# Altium integrated library Analog Devices Data Converters Analog-to-Digital Converters.IntLib: 2400 symbols (part 201 of 338)
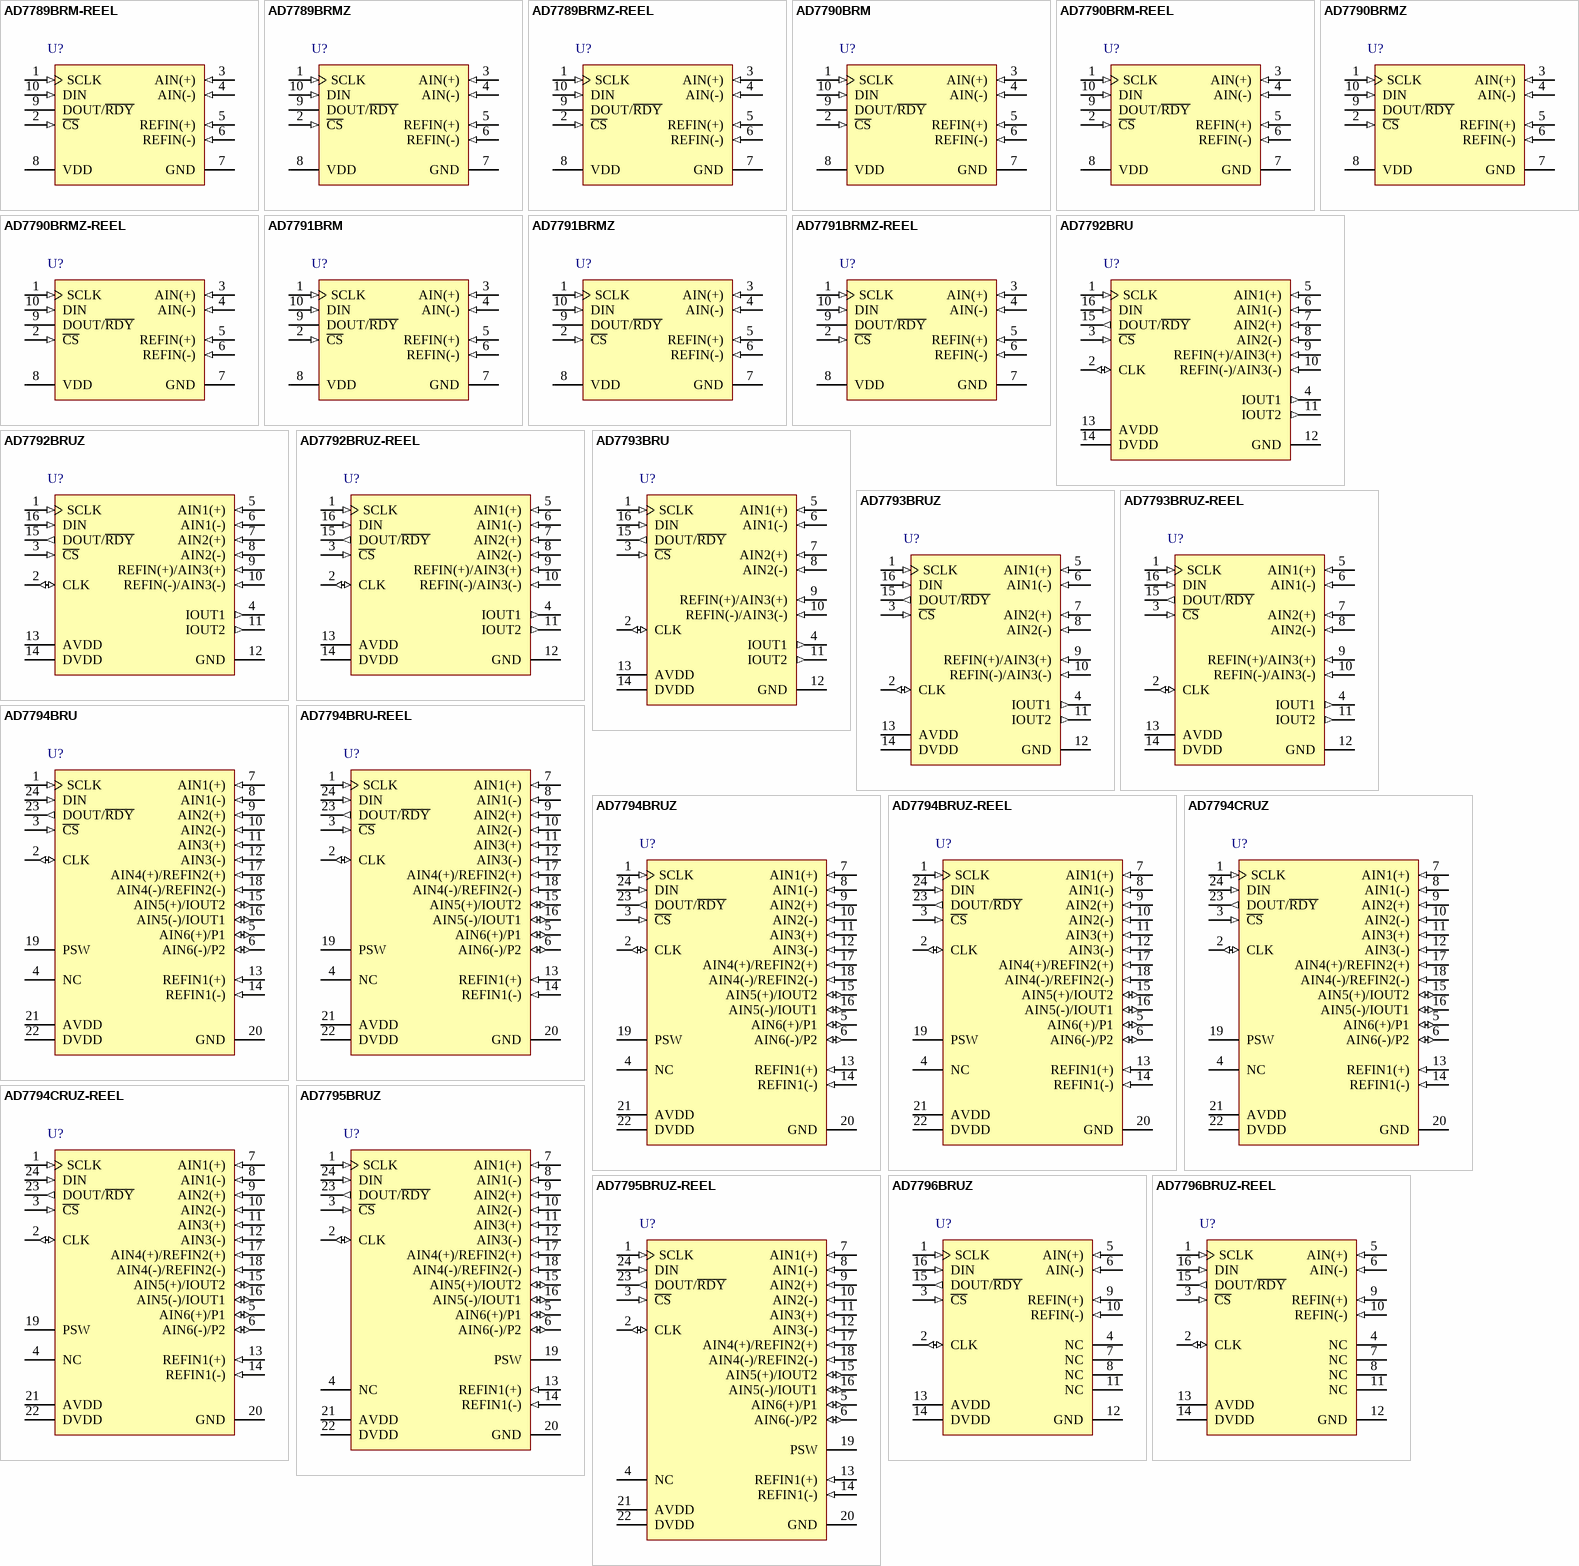
[diagram p266: symbols AD7789BRM-REEL to AD7796BRUZ-REEL]

## AD7793BRU
designator U?
3 Channel 24-Bit Low Noise Low Power Sigma-Delta Analog-to-Digital Converter with Serial, SPI Interface and On-Chip In-Amp and Reference, 4.17 / 470SPS, -40 to +105 degC, RU-16, Tube; Part Number: AD7793; Manufacturer: Analog Devices; Resolution (Bits): 24; Channels: 3; Throughput Rate (SPS): 470; Interface: Ser, SPI; DatasheetVersion: Rev.B; PackageVersion: Nov-2002; PackageReference: RU-16; PackageDescription: 16-Lead Thin Shrink Small Outline Package [TSSOP]; RoHS: N; Packing: Tube; Mounting Technology: Surface Mount; Code_JEDEC: MO-153-AB; ComponentLink1Description: Manufacturer URL; ComponentLink1URL: http://www.analog.com/en/index.html; ComponentLink2Description: Datasheet; ComponentLink2URL: http://www.analog.com/static/imported-files/data_sheets/AD7792_7793.pdf; ComponentLink3Description: Package Specification; ComponentLink3URL: http://www.analog.com/static/imported-files/packages/36244347913743854010197452789RU16.pdf; ComponentLink4Description: Product URL; ComponentLink4URL: http://www.analog.com/en/analog-to-digital-converters/ad-converters/ad7793/products/product.html
footprint RU-16_N (TSOP, 16-Leads, Body 5x4.4mm, Pitch 0.65mm, IPC Medium Density)
footprint RU-16_L (TSOP, 16-Leads, Body 5x4.4mm, Pitch 0.65mm, IPC High Density)
footprint RU-16_M (TSOP, 16-Leads, Body 5x4.4mm, Pitch 0.65mm, IPC Low Density)
pins: 1 SCLK (in) "Serial Clock Input. This serial clock input is for data transfers to and from the ADC. The SCLK has a Schmitttriggered input, making the interface suitable for opto-isolated applications. The serial clock can be continuous (See Datasheet)", 2 CLK (io) "Clock In/Clock Out. The internal clock can be made available at this pin. Alternatively, the internal clock can be disabled, and the ADC can be driven by an external clock. This allows several ADCs to be driven from a common (See Datasheet)", 3 ~{CS} (in) "Chip Select Input. This is an active low logic input used to select the ADC. C\S\ can be used to select the ADC in systems with more than one device on the serial bus or as a frame synchronization signal in communicating (See Datasheet)", 4 IOUT1 (out) "Output of Internal Excitation Current Source. The internal excitation current source can be made available at this pin. The excitation current source is programmable so that the current can be 10 uA, 210 uA, or 1 mA. Either (See Datasheet)", 5 AIN1(+) (in) "Analog Input. AIN1(+) is the positive terminal of the differential analog input pair AIN1(+)/AIN1(-).", 6 AIN1(-) (in) "Analog Input. AIN1(-) is the negative terminal of the differential analog input pair AIN1(+)/AIN1(-).", 7 AIN2(+) (in) "Analog Input. AIN2(+) is the positive terminal of the differential analog input pair AIN2(+)/AIN2(-).", 8 AIN2(-) (in) "Analog Input. AIN2(-) is the negative terminal of the differential analog input pair AIN2(+)/AIN2(-).", 9 REFIN(+)/AIN3(+) (in) "Positive Reference Input/Analog Input. An external reference can be applied between REFIN(+) and REFIN(-). REFIN(+) can lie anywhere between AVDD and GND + 0.1 V. The nominal reference voltage  REFIN(+) - REFIN(-) is 2.5 V, (See Datasheet)", 10 REFIN(-)/AIN3(-) (in) "Negative Reference Input/Analog Input. REFIN(-) is the negative reference input for REFIN. This reference input can lie anywhere between GND and AVDD - 0.1 V. This pin also functions as AIN3(-), which is the negative (See Datasheet)", 11 IOUT2 (out) "Output of Internal Excitation Current Source. The internal excitation current source can be made available at this pin. The excitation current source is programmable so that the current can be 10 uA, 210 uA, or 1 mA. Either (See Datasheet)", 12 GND "Ground Reference Point.", 13 AVDD (power) "Supply Voltage, 2.7 V to 5.25 V.", 14 DVDD (power) "Digital Interface Supply Voltage. The logic levels for the serial interface pins are related to this supply, which is between 2.7 V and 5.25 V. The DVDD voltage is independent of the voltage on AVDD; therefore, AVDD can (See Datasheet)", 15 DOUT/~{RDY} (out) "Serial Data Output/Data Ready Output. DOUT/R\D\Y\ serves a dual purpose. It functions as a serial data output pin to access the output shift register of the ADC. The output shift register can contain data from any of the (See Datasheet)", 16 DIN (in) "Serial Data Input. This serial data input is to the input shift register on the ADC. Data in this shift register is transferred to the control registers within the ADC; the register selection bits of the communications (See Datasheet)"

## AD7793BRUZ
designator U?
3 Channel 24-Bit Low Noise Low Power Sigma-Delta Analog-to-Digital Converter with Serial, SPI Interface and On-Chip In-Amp and Reference, 4.17 / 470SPS, -40 to +105 degC, RU-16, Pb-Free, Tube; Part Number: AD7793; Manufacturer: Analog Devices; Resolution (Bits): 24; Channels: 3; Throughput Rate (SPS): 470; Interface: Ser, SPI; DatasheetVersion: Rev.B; PackageVersion: Nov-2002; PackageReference: RU-16; PackageDescription: 16-Lead Thin Shrink Small Outline Package [TSSOP]; RoHS: Y; Packing: Tube; Mounting Technology: Surface Mount; Code_JEDEC: MO-153-AB; ComponentLink1Description: Manufacturer URL; ComponentLink1URL: http://www.analog.com/en/index.html; ComponentLink2Description: Datasheet; ComponentLink2URL: http://www.analog.com/static/imported-files/data_sheets/AD7792_7793.pdf; ComponentLink3Description: Package Specification; ComponentLink3URL: http://www.analog.com/static/imported-files/packages/36244347913743854010197452789RU16.pdf; ComponentLink4Description: Product URL; ComponentLink4URL: http://www.analog.com/en/analog-to-digital-converters/ad-converters/ad7793/products/product.html
footprint RU-16_N (TSOP, 16-Leads, Body 5x4.4mm, Pitch 0.65mm, IPC Medium Density)
footprint RU-16_L (TSOP, 16-Leads, Body 5x4.4mm, Pitch 0.65mm, IPC High Density)
footprint RU-16_M (TSOP, 16-Leads, Body 5x4.4mm, Pitch 0.65mm, IPC Low Density)
pins: 1 SCLK (in) "Serial Clock Input. This serial clock input is for data transfers to and from the ADC. The SCLK has a Schmitttriggered input, making the interface suitable for opto-isolated applications. The serial clock can be continuous (See Datasheet)", 2 CLK (io) "Clock In/Clock Out. The internal clock can be made available at this pin. Alternatively, the internal clock can be disabled, and the ADC can be driven by an external clock. This allows several ADCs to be driven from a common (See Datasheet)", 3 ~{CS} (in) "Chip Select Input. This is an active low logic input used to select the ADC. C\S\ can be used to select the ADC in systems with more than one device on the serial bus or as a frame synchronization signal in communicating (See Datasheet)", 4 IOUT1 (out) "Output of Internal Excitation Current Source. The internal excitation current source can be made available at this pin. The excitation current source is programmable so that the current can be 10 uA, 210 uA, or 1 mA. Either (See Datasheet)", 5 AIN1(+) (in) "Analog Input. AIN1(+) is the positive terminal of the differential analog input pair AIN1(+)/AIN1(-).", 6 AIN1(-) (in) "Analog Input. AIN1(-) is the negative terminal of the differential analog input pair AIN1(+)/AIN1(-).", 7 AIN2(+) (in) "Analog Input. AIN2(+) is the positive terminal of the differential analog input pair AIN2(+)/AIN2(-).", 8 AIN2(-) (in) "Analog Input. AIN2(-) is the negative terminal of the differential analog input pair AIN2(+)/AIN2(-).", 9 REFIN(+)/AIN3(+) (in) "Positive Reference Input/Analog Input. An external reference can be applied between REFIN(+) and REFIN(-). REFIN(+) can lie anywhere between AVDD and GND + 0.1 V. The nominal reference voltage  REFIN(+) - REFIN(-) is 2.5 V, (See Datasheet)", 10 REFIN(-)/AIN3(-) (in) "Negative Reference Input/Analog Input. REFIN(-) is the negative reference input for REFIN. This reference input can lie anywhere between GND and AVDD - 0.1 V. This pin also functions as AIN3(-), which is the negative (See Datasheet)", 11 IOUT2 (out) "Output of Internal Excitation Current Source. The internal excitation current source can be made available at this pin. The excitation current source is programmable so that the current can be 10 uA, 210 uA, or 1 mA. Either (See Datasheet)", 12 GND "Ground Reference Point.", 13 AVDD (power) "Supply Voltage, 2.7 V to 5.25 V.", 14 DVDD (power) "Digital Interface Supply Voltage. The logic levels for the serial interface pins are related to this supply, which is between 2.7 V and 5.25 V. The DVDD voltage is independent of the voltage on AVDD; therefore, AVDD can (See Datasheet)", 15 DOUT/~{RDY} (out) "Serial Data Output/Data Ready Output. DOUT/R\D\Y\ serves a dual purpose. It functions as a serial data output pin to access the output shift register of the ADC. The output shift register can contain data from any of the (See Datasheet)", 16 DIN (in) "Serial Data Input. This serial data input is to the input shift register on the ADC. Data in this shift register is transferred to the control registers within the ADC; the register selection bits of the communications (See Datasheet)"

## AD7793BRUZ-REEL
designator U?
3 Channel 24-Bit Low Noise Low Power Sigma-Delta Analog-to-Digital Converter with Serial, SPI Interface and On-Chip In-Amp and Reference, 4.17 / 470SPS, -40 to +105 degC, RU-16, Pb-Free, Reel; Part Number: AD7793; Manufacturer: Analog Devices; Resolution (Bits): 24; Channels: 3; Throughput Rate (SPS): 470; Interface: Ser, SPI; DatasheetVersion: Rev.B; PackageVersion: Nov-2002; PackageReference: RU-16; PackageDescription: 16-Lead Thin Shrink Small Outline Package [TSSOP]; RoHS: Y; Packing: Reel; Mounting Technology: Surface Mount; Code_JEDEC: MO-153-AB; ComponentLink1Description: Manufacturer URL; ComponentLink1URL: http://www.analog.com/en/index.html; ComponentLink2Description: Datasheet; ComponentLink2URL: http://www.analog.com/static/imported-files/data_sheets/AD7792_7793.pdf; ComponentLink3Description: Package Specification; ComponentLink3URL: http://www.analog.com/static/imported-files/packages/36244347913743854010197452789RU16.pdf; ComponentLink4Description: Product URL; ComponentLink4URL: http://www.analog.com/en/analog-to-digital-converters/ad-converters/ad7793/products/product.html
footprint RU-16_N (TSOP, 16-Leads, Body 5x4.4mm, Pitch 0.65mm, IPC Medium Density)
footprint RU-16_L (TSOP, 16-Leads, Body 5x4.4mm, Pitch 0.65mm, IPC High Density)
footprint RU-16_M (TSOP, 16-Leads, Body 5x4.4mm, Pitch 0.65mm, IPC Low Density)
pins: 1 SCLK (in) "Serial Clock Input. This serial clock input is for data transfers to and from the ADC. The SCLK has a Schmitttriggered input, making the interface suitable for opto-isolated applications. The serial clock can be continuous (See Datasheet)", 2 CLK (io) "Clock In/Clock Out. The internal clock can be made available at this pin. Alternatively, the internal clock can be disabled, and the ADC can be driven by an external clock. This allows several ADCs to be driven from a common (See Datasheet)", 3 ~{CS} (in) "Chip Select Input. This is an active low logic input used to select the ADC. C\S\ can be used to select the ADC in systems with more than one device on the serial bus or as a frame synchronization signal in communicating (See Datasheet)", 4 IOUT1 (out) "Output of Internal Excitation Current Source. The internal excitation current source can be made available at this pin. The excitation current source is programmable so that the current can be 10 uA, 210 uA, or 1 mA. Either (See Datasheet)", 5 AIN1(+) (in) "Analog Input. AIN1(+) is the positive terminal of the differential analog input pair AIN1(+)/AIN1(-).", 6 AIN1(-) (in) "Analog Input. AIN1(-) is the negative terminal of the differential analog input pair AIN1(+)/AIN1(-).", 7 AIN2(+) (in) "Analog Input. AIN2(+) is the positive terminal of the differential analog input pair AIN2(+)/AIN2(-).", 8 AIN2(-) (in) "Analog Input. AIN2(-) is the negative terminal of the differential analog input pair AIN2(+)/AIN2(-).", 9 REFIN(+)/AIN3(+) (in) "Positive Reference Input/Analog Input. An external reference can be applied between REFIN(+) and REFIN(-). REFIN(+) can lie anywhere between AVDD and GND + 0.1 V. The nominal reference voltage  REFIN(+) - REFIN(-) is 2.5 V, (See Datasheet)", 10 REFIN(-)/AIN3(-) (in) "Negative Reference Input/Analog Input. REFIN(-) is the negative reference input for REFIN. This reference input can lie anywhere between GND and AVDD - 0.1 V. This pin also functions as AIN3(-), which is the negative (See Datasheet)", 11 IOUT2 (out) "Output of Internal Excitation Current Source. The internal excitation current source can be made available at this pin. The excitation current source is programmable so that the current can be 10 uA, 210 uA, or 1 mA. Either (See Datasheet)", 12 GND "Ground Reference Point.", 13 AVDD (power) "Supply Voltage, 2.7 V to 5.25 V.", 14 DVDD (power) "Digital Interface Supply Voltage. The logic levels for the serial interface pins are related to this supply, which is between 2.7 V and 5.25 V. The DVDD voltage is independent of the voltage on AVDD; therefore, AVDD can (See Datasheet)", 15 DOUT/~{RDY} (out) "Serial Data Output/Data Ready Output. DOUT/R\D\Y\ serves a dual purpose. It functions as a serial data output pin to access the output shift register of the ADC. The output shift register can contain data from any of the (See Datasheet)", 16 DIN (in) "Serial Data Input. This serial data input is to the input shift register on the ADC. Data in this shift register is transferred to the control registers within the ADC; the register selection bits of the communications (See Datasheet)"

## AD7794BRU
designator U?
6 Channel 24-Bit Low Noise Low Power Sigma-Delta Analog-to-Digital Converter with Serial, SPI Interface and On-Chip In-Amp and Reference, 4.17 / 470SPS, -40 to +105 degC, RU-24, Tube; Part Number: AD7794; Manufacturer: Analog Devices; Resolution (Bits): 24; Channels: 6; Throughput Rate (SPS): 470; Interface: Ser, SPI; DatasheetVersion: Rev.D; PackageVersion: 2002; PackageReference: RU-24; PackageDescription: 24-Lead Thin Shrink Small Outline Package [TSSOP]; RoHS: N; Packing: Tube; Mounting Technology: Surface Mount; Code_JEDEC: MO-153-AD; ComponentLink1Description: Manufacturer URL; ComponentLink1URL: http://www.analog.com/en/index.html; ComponentLink2Description: Datasheet; ComponentLink2URL: http://www.analog.com/static/imported-files/data_sheets/AD7794_7795.pdf; ComponentLink3Description: Package Specification; ComponentLink3URL: http://www.analog.com/static/imported-files/packages/380523655245964505593671154107510036154RU24.pdf; ComponentLink4Description: Product URL; ComponentLink4URL: http://www.analog.com/en/analog-to-digital-converters/ad-converters/ad7794/products/product.html
footprint RU-24_N (TSOP, 24-Leads, Body 7.8x4.4mm, Pitch 0.65mm, IPC Medium Density)
footprint RU-24_L (TSOP, 24-Leads, Body 7.8x4.4mm, Pitch 0.65mm, IPC High Density)
footprint RU-24_M (TSOP, 24-Leads, Body 7.8x4.4mm, Pitch 0.65mm, IPC Low Density)
pins: 1 SCLK (in) "Serial Clock Input. This serial clock input is for data transfers to and from the ADC. The SCLK has a Schmitttriggered input, making the interface suitable for opto-isolated applications. The serial clock can be continuous (See Datasheet)", 2 CLK (io) "Clock In/Clock Out. The internal clock can be made available at this pin. Alternatively, the internal clock can be disabled, and the ADC can be driven by an external clock. This allows several ADCs to be driven from a common (See Datasheet)", 3 ~{CS} (in) "Chip Select Input. This is an active low logic input used to select the ADC. C\S\ can be used to select the ADC in systems with more than one device on the serial bus or as a frame synchronization signal in communicating (See Datasheet)", 4 NC "No Connect.", 5 AIN6(+)/P1 (io) "Analog Input/Digital Output Pin. AIN6(+) is the positive terminal of the differential analog input pair,AIN6(+)/AIN6(-). This pin can also function as a general-purpose output bit referenced between AVDD and GND.", 6 AIN6(-)/P2 (io) "Analog Input/Digital Output Pin. AIN6(-) is the negative terminal of the differential analog input pair,AIN6(+)/AIN6(-). This pin can also function as a general-purpose output bit referenced between AVDD and GND.", 7 AIN1(+) (in) "Analog Input. AIN1(+) is the positive terminal of the differential analog input pair, AIN1(+)/AIN1(-).", 8 AIN1(-) (in) "Analog Input. AIN1(-) is the negative terminal of the differential analog input pair, AIN1(+)/AIN1(-).", 9 AIN2(+) (in) "Analog Input. AIN2(+) is the positive terminal of the differential analog input pair, AIN2(+)/AIN2(-).", 10 AIN2(-) (in) "Analog Input. AIN2(-) is the negative terminal of the differential analog input pair, AIN2(+)/AIN2(-).", 11 AIN3(+) (in) "Analog Input. AIN3(+) is the positive terminal of the differential analog input pair, AIN3(+)/AIN3(-).", 12 AIN3(-) (in) "Analog Input. AIN3(-) is the negative terminal of the differential analog input pair, AIN3(+)/AIN3(-).", 13 REFIN1(+) (in) "Positive Reference Input. An external reference can be applied between REFIN1(+) and REFIN1(-). REFIN1(+) can lie anywhere between AVDD and GND + 0.1 V. The nominal reference voltage, (REFIN1(+) - REFIN1(-)), is 2.5 V, but (See Datasheet)", 14 REFIN1(-) (in) "Negative Reference Input. This reference input can lie anywhere between GND and AVDD - 0.1 V.", 15 AIN5(+)/IOUT2 (io) "Analog Input/Output of Internal Excitation Current Source. AIN5(+) is the positive terminal of the differential analog input pair AIN5(+)/AIN5(-). Alternatively, the internal excitation current source can be made available (See Datasheet)", 16 AIN5(-)/IOUT1 (io) "Analog Input/Output of Internal Excitation Current Source. AIN5(-) is the negative terminal of the differential analog input pair, AIN5(+)/AIN5(-). Alternatively, the internal excitation current source can be made available (See Datasheet)", 17 AIN4(+)/REFIN2(+) (in) "Analog Input/Positive Reference Input. AIN4(+) is the positive terminal of the differential analog input pair AIN4(+)/AIN4(-). This pin also functions as a positive reference input for REFIN2. REFIN2(+) can lie anywhere (See Datasheet)", 18 AIN4(-)/REFIN2(-) (in) "Analog Input/Negative Reference Input. AIN4(-) is the negative terminal of the differential analog input pair AIN4(+)/AIN4(-). This pin also functions as the negative reference input for REFIN2. This reference input can lie (See Datasheet)", 19 PSW "Low-Side Power Switch to GND.", 20 GND (power) "Ground Reference Point.", 21 AVDD (power) "Supply Voltage, 2.7 V to 5.25 V.", 22 DVDD (power) "Serial Interface Supply Voltage, 2.7 V to 5.25 V. DVDD is independent of AVDD. Therefore, the serial interface operates at 3 V with AVDD at 5 V or vice versa.", 23 DOUT/~{RDY} (out) "Serial Data Output/Data Ready Output. DOUT/R\D\Y\ serves a dual purpose. It functions as a serial data output pin to access the output shift register of the ADC. The output shift register can contain data from any of the (See Datasheet)", 24 DIN (in) "Serial Data Input to the Input Shift Register on the ADC. Data in this shift register is transferred to the control registers within the ADC with the register selection bits of the communications register identifying the (See Datasheet)"

## AD7794BRU-REEL
designator U?
6 Channel 24-Bit Low Noise Low Power Sigma-Delta Analog-to-Digital Converter with Serial, SPI Interface and On-Chip In-Amp and Reference, 4.17 / 470SPS, -40 to +105 degC, RU-24, Reel; Part Number: AD7794; Manufacturer: Analog Devices; Resolution (Bits): 24; Channels: 6; Throughput Rate (SPS): 470; Interface: Ser, SPI; DatasheetVersion: Rev.D; PackageVersion: 2002; PackageReference: RU-24; PackageDescription: 24-Lead Thin Shrink Small Outline Package [TSSOP]; RoHS: N; Packing: Reel; Mounting Technology: Surface Mount; Code_JEDEC: MO-153-AD; ComponentLink1Description: Manufacturer URL; ComponentLink1URL: http://www.analog.com/en/index.html; ComponentLink2Description: Datasheet; ComponentLink2URL: http://www.analog.com/static/imported-files/data_sheets/AD7794_7795.pdf; ComponentLink3Description: Package Specification; ComponentLink3URL: http://www.analog.com/static/imported-files/packages/380523655245964505593671154107510036154RU24.pdf; ComponentLink4Description: Product URL; ComponentLink4URL: http://www.analog.com/en/analog-to-digital-converters/ad-converters/ad7794/products/product.html
footprint RU-24_N (TSOP, 24-Leads, Body 7.8x4.4mm, Pitch 0.65mm, IPC Medium Density)
footprint RU-24_L (TSOP, 24-Leads, Body 7.8x4.4mm, Pitch 0.65mm, IPC High Density)
footprint RU-24_M (TSOP, 24-Leads, Body 7.8x4.4mm, Pitch 0.65mm, IPC Low Density)
pins: 1 SCLK (in) "Serial Clock Input. This serial clock input is for data transfers to and from the ADC. The SCLK has a Schmitttriggered input, making the interface suitable for opto-isolated applications. The serial clock can be continuous (See Datasheet)", 2 CLK (io) "Clock In/Clock Out. The internal clock can be made available at this pin. Alternatively, the internal clock can be disabled, and the ADC can be driven by an external clock. This allows several ADCs to be driven from a common (See Datasheet)", 3 ~{CS} (in) "Chip Select Input. This is an active low logic input used to select the ADC. C\S\ can be used to select the ADC in systems with more than one device on the serial bus or as a frame synchronization signal in communicating (See Datasheet)", 4 NC "No Connect.", 5 AIN6(+)/P1 (io) "Analog Input/Digital Output Pin. AIN6(+) is the positive terminal of the differential analog input pair,AIN6(+)/AIN6(-). This pin can also function as a general-purpose output bit referenced between AVDD and GND.", 6 AIN6(-)/P2 (io) "Analog Input/Digital Output Pin. AIN6(-) is the negative terminal of the differential analog input pair,AIN6(+)/AIN6(-). This pin can also function as a general-purpose output bit referenced between AVDD and GND.", 7 AIN1(+) (in) "Analog Input. AIN1(+) is the positive terminal of the differential analog input pair, AIN1(+)/AIN1(-).", 8 AIN1(-) (in) "Analog Input. AIN1(-) is the negative terminal of the differential analog input pair, AIN1(+)/AIN1(-).", 9 AIN2(+) (in) "Analog Input. AIN2(+) is the positive terminal of the differential analog input pair, AIN2(+)/AIN2(-).", 10 AIN2(-) (in) "Analog Input. AIN2(-) is the negative terminal of the differential analog input pair, AIN2(+)/AIN2(-).", 11 AIN3(+) (in) "Analog Input. AIN3(+) is the positive terminal of the differential analog input pair, AIN3(+)/AIN3(-).", 12 AIN3(-) (in) "Analog Input. AIN3(-) is the negative terminal of the differential analog input pair, AIN3(+)/AIN3(-).", 13 REFIN1(+) (in) "Positive Reference Input. An external reference can be applied between REFIN1(+) and REFIN1(-). REFIN1(+) can lie anywhere between AVDD and GND + 0.1 V. The nominal reference voltage, (REFIN1(+) - REFIN1(-)), is 2.5 V, but (See Datasheet)", 14 REFIN1(-) (in) "Negative Reference Input. This reference input can lie anywhere between GND and AVDD - 0.1 V.", 15 AIN5(+)/IOUT2 (io) "Analog Input/Output of Internal Excitation Current Source. AIN5(+) is the positive terminal of the differential analog input pair AIN5(+)/AIN5(-). Alternatively, the internal excitation current source can be made available (See Datasheet)", 16 AIN5(-)/IOUT1 (io) "Analog Input/Output of Internal Excitation Current Source. AIN5(-) is the negative terminal of the differential analog input pair, AIN5(+)/AIN5(-). Alternatively, the internal excitation current source can be made available (See Datasheet)", 17 AIN4(+)/REFIN2(+) (in) "Analog Input/Positive Reference Input. AIN4(+) is the positive terminal of the differential analog input pair AIN4(+)/AIN4(-). This pin also functions as a positive reference input for REFIN2. REFIN2(+) can lie anywhere (See Datasheet)", 18 AIN4(-)/REFIN2(-) (in) "Analog Input/Negative Reference Input. AIN4(-) is the negative terminal of the differential analog input pair AIN4(+)/AIN4(-). This pin also functions as the negative reference input for REFIN2. This reference input can lie (See Datasheet)", 19 PSW "Low-Side Power Switch to GND.", 20 GND (power) "Ground Reference Point.", 21 AVDD (power) "Supply Voltage, 2.7 V to 5.25 V.", 22 DVDD (power) "Serial Interface Supply Voltage, 2.7 V to 5.25 V. DVDD is independent of AVDD. Therefore, the serial interface operates at 3 V with AVDD at 5 V or vice versa.", 23 DOUT/~{RDY} (out) "Serial Data Output/Data Ready Output. DOUT/R\D\Y\ serves a dual purpose. It functions as a serial data output pin to access the output shift register of the ADC. The output shift register can contain data from any of the (See Datasheet)", 24 DIN (in) "Serial Data Input to the Input Shift Register on the ADC. Data in this shift register is transferred to the control registers within the ADC with the register selection bits of the communications register identifying the (See Datasheet)"

## AD7794BRUZ
designator U?
6 Channel 24-Bit Low Noise Low Power Sigma-Delta Analog-to-Digital Converter with Serial, SPI Interface and On-Chip In-Amp and Reference, 4.17 / 470SPS, -40 to +105 degC, RU-24, Pb-Free, Tube; Part Number: AD7794; Manufacturer: Analog Devices; Resolution (Bits): 24; Channels: 6; Throughput Rate (SPS): 470; Interface: Ser, SPI; DatasheetVersion: Rev.D; PackageVersion: 2002; PackageReference: RU-24; PackageDescription: 24-Lead Thin Shrink Small Outline Package [TSSOP]; RoHS: Y; Packing: Tube; Mounting Technology: Surface Mount; Code_JEDEC: MO-153-AD; ComponentLink1Description: Manufacturer URL; ComponentLink1URL: http://www.analog.com/en/index.html; ComponentLink2Description: Datasheet; ComponentLink2URL: http://www.analog.com/static/imported-files/data_sheets/AD7794_7795.pdf; ComponentLink3Description: Package Specification; ComponentLink3URL: http://www.analog.com/static/imported-files/packages/380523655245964505593671154107510036154RU24.pdf; ComponentLink4Description: Product URL; ComponentLink4URL: http://www.analog.com/en/analog-to-digital-converters/ad-converters/ad7794/products/product.html
footprint RU-24_N (TSOP, 24-Leads, Body 7.8x4.4mm, Pitch 0.65mm, IPC Medium Density)
footprint RU-24_L (TSOP, 24-Leads, Body 7.8x4.4mm, Pitch 0.65mm, IPC High Density)
footprint RU-24_M (TSOP, 24-Leads, Body 7.8x4.4mm, Pitch 0.65mm, IPC Low Density)
pins: 1 SCLK (in) "Serial Clock Input. This serial clock input is for data transfers to and from the ADC. The SCLK has a Schmitttriggered input, making the interface suitable for opto-isolated applications. The serial clock can be continuous (See Datasheet)", 2 CLK (io) "Clock In/Clock Out. The internal clock can be made available at this pin. Alternatively, the internal clock can be disabled, and the ADC can be driven by an external clock. This allows several ADCs to be driven from a common (See Datasheet)", 3 ~{CS} (in) "Chip Select Input. This is an active low logic input used to select the ADC. C\S\ can be used to select the ADC in systems with more than one device on the serial bus or as a frame synchronization signal in communicating (See Datasheet)", 4 NC "No Connect.", 5 AIN6(+)/P1 (io) "Analog Input/Digital Output Pin. AIN6(+) is the positive terminal of the differential analog input pair,AIN6(+)/AIN6(-). This pin can also function as a general-purpose output bit referenced between AVDD and GND.", 6 AIN6(-)/P2 (io) "Analog Input/Digital Output Pin. AIN6(-) is the negative terminal of the differential analog input pair,AIN6(+)/AIN6(-). This pin can also function as a general-purpose output bit referenced between AVDD and GND.", 7 AIN1(+) (in) "Analog Input. AIN1(+) is the positive terminal of the differential analog input pair, AIN1(+)/AIN1(-).", 8 AIN1(-) (in) "Analog Input. AIN1(-) is the negative terminal of the differential analog input pair, AIN1(+)/AIN1(-).", 9 AIN2(+) (in) "Analog Input. AIN2(+) is the positive terminal of the differential analog input pair, AIN2(+)/AIN2(-).", 10 AIN2(-) (in) "Analog Input. AIN2(-) is the negative terminal of the differential analog input pair, AIN2(+)/AIN2(-).", 11 AIN3(+) (in) "Analog Input. AIN3(+) is the positive terminal of the differential analog input pair, AIN3(+)/AIN3(-).", 12 AIN3(-) (in) "Analog Input. AIN3(-) is the negative terminal of the differential analog input pair, AIN3(+)/AIN3(-).", 13 REFIN1(+) (in) "Positive Reference Input. An external reference can be applied between REFIN1(+) and REFIN1(-). REFIN1(+) can lie anywhere between AVDD and GND + 0.1 V. The nominal reference voltage, (REFIN1(+) - REFIN1(-)), is 2.5 V, but (See Datasheet)", 14 REFIN1(-) (in) "Negative Reference Input. This reference input can lie anywhere between GND and AVDD - 0.1 V.", 15 AIN5(+)/IOUT2 (io) "Analog Input/Output of Internal Excitation Current Source. AIN5(+) is the positive terminal of the differential analog input pair AIN5(+)/AIN5(-). Alternatively, the internal excitation current source can be made available (See Datasheet)", 16 AIN5(-)/IOUT1 (io) "Analog Input/Output of Internal Excitation Current Source. AIN5(-) is the negative terminal of the differential analog input pair, AIN5(+)/AIN5(-). Alternatively, the internal excitation current source can be made available (See Datasheet)", 17 AIN4(+)/REFIN2(+) (in) "Analog Input/Positive Reference Input. AIN4(+) is the positive terminal of the differential analog input pair AIN4(+)/AIN4(-). This pin also functions as a positive reference input for REFIN2. REFIN2(+) can lie anywhere (See Datasheet)", 18 AIN4(-)/REFIN2(-) (in) "Analog Input/Negative Reference Input. AIN4(-) is the negative terminal of the differential analog input pair AIN4(+)/AIN4(-). This pin also functions as the negative reference input for REFIN2. This reference input can lie (See Datasheet)", 19 PSW "Low-Side Power Switch to GND.", 20 GND (power) "Ground Reference Point.", 21 AVDD (power) "Supply Voltage, 2.7 V to 5.25 V.", 22 DVDD (power) "Serial Interface Supply Voltage, 2.7 V to 5.25 V. DVDD is independent of AVDD. Therefore, the serial interface operates at 3 V with AVDD at 5 V or vice versa.", 23 DOUT/~{RDY} (out) "Serial Data Output/Data Ready Output. DOUT/R\D\Y\ serves a dual purpose. It functions as a serial data output pin to access the output shift register of the ADC. The output shift register can contain data from any of the (See Datasheet)", 24 DIN (in) "Serial Data Input to the Input Shift Register on the ADC. Data in this shift register is transferred to the control registers within the ADC with the register selection bits of the communications register identifying the (See Datasheet)"

## AD7794BRUZ-REEL
designator U?
6 Channel 24-Bit Low Noise Low Power Sigma-Delta Analog-to-Digital Converter with Serial, SPI Interface and On-Chip In-Amp and Reference, 4.17 / 470SPS, -40 to +105 degC, RU-24, Pb-Free, Reel; Part Number: AD7794; Manufacturer: Analog Devices; Resolution (Bits): 24; Channels: 6; Throughput Rate (SPS): 470; Interface: Ser, SPI; DatasheetVersion: Rev.D; PackageVersion: 2002; PackageReference: RU-24; PackageDescription: 24-Lead Thin Shrink Small Outline Package [TSSOP]; RoHS: Y; Packing: Reel; Mounting Technology: Surface Mount; Code_JEDEC: MO-153-AD; ComponentLink1Description: Manufacturer URL; ComponentLink1URL: http://www.analog.com/en/index.html; ComponentLink2Description: Datasheet; ComponentLink2URL: http://www.analog.com/static/imported-files/data_sheets/AD7794_7795.pdf; ComponentLink3Description: Package Specification; ComponentLink3URL: http://www.analog.com/static/imported-files/packages/380523655245964505593671154107510036154RU24.pdf; ComponentLink4Description: Product URL; ComponentLink4URL: http://www.analog.com/en/analog-to-digital-converters/ad-converters/ad7794/products/product.html
footprint RU-24_N (TSOP, 24-Leads, Body 7.8x4.4mm, Pitch 0.65mm, IPC Medium Density)
footprint RU-24_L (TSOP, 24-Leads, Body 7.8x4.4mm, Pitch 0.65mm, IPC High Density)
footprint RU-24_M (TSOP, 24-Leads, Body 7.8x4.4mm, Pitch 0.65mm, IPC Low Density)
pins: 1 SCLK (in) "Serial Clock Input. This serial clock input is for data transfers to and from the ADC. The SCLK has a Schmitttriggered input, making the interface suitable for opto-isolated applications. The serial clock can be continuous (See Datasheet)", 2 CLK (io) "Clock In/Clock Out. The internal clock can be made available at this pin. Alternatively, the internal clock can be disabled, and the ADC can be driven by an external clock. This allows several ADCs to be driven from a common (See Datasheet)", 3 ~{CS} (in) "Chip Select Input. This is an active low logic input used to select the ADC. C\S\ can be used to select the ADC in systems with more than one device on the serial bus or as a frame synchronization signal in communicating (See Datasheet)", 4 NC "No Connect.", 5 AIN6(+)/P1 (io) "Analog Input/Digital Output Pin. AIN6(+) is the positive terminal of the differential analog input pair,AIN6(+)/AIN6(-). This pin can also function as a general-purpose output bit referenced between AVDD and GND.", 6 AIN6(-)/P2 (io) "Analog Input/Digital Output Pin. AIN6(-) is the negative terminal of the differential analog input pair,AIN6(+)/AIN6(-). This pin can also function as a general-purpose output bit referenced between AVDD and GND.", 7 AIN1(+) (in) "Analog Input. AIN1(+) is the positive terminal of the differential analog input pair, AIN1(+)/AIN1(-).", 8 AIN1(-) (in) "Analog Input. AIN1(-) is the negative terminal of the differential analog input pair, AIN1(+)/AIN1(-).", 9 AIN2(+) (in) "Analog Input. AIN2(+) is the positive terminal of the differential analog input pair, AIN2(+)/AIN2(-).", 10 AIN2(-) (in) "Analog Input. AIN2(-) is the negative terminal of the differential analog input pair, AIN2(+)/AIN2(-).", 11 AIN3(+) (in) "Analog Input. AIN3(+) is the positive terminal of the differential analog input pair, AIN3(+)/AIN3(-).", 12 AIN3(-) (in) "Analog Input. AIN3(-) is the negative terminal of the differential analog input pair, AIN3(+)/AIN3(-).", 13 REFIN1(+) (in) "Positive Reference Input. An external reference can be applied between REFIN1(+) and REFIN1(-). REFIN1(+) can lie anywhere between AVDD and GND + 0.1 V. The nominal reference voltage, (REFIN1(+) - REFIN1(-)), is 2.5 V, but (See Datasheet)", 14 REFIN1(-) (in) "Negative Reference Input. This reference input can lie anywhere between GND and AVDD - 0.1 V.", 15 AIN5(+)/IOUT2 (io) "Analog Input/Output of Internal Excitation Current Source. AIN5(+) is the positive terminal of the differential analog input pair AIN5(+)/AIN5(-). Alternatively, the internal excitation current source can be made available (See Datasheet)", 16 AIN5(-)/IOUT1 (io) "Analog Input/Output of Internal Excitation Current Source. AIN5(-) is the negative terminal of the differential analog input pair, AIN5(+)/AIN5(-). Alternatively, the internal excitation current source can be made available (See Datasheet)", 17 AIN4(+)/REFIN2(+) (in) "Analog Input/Positive Reference Input. AIN4(+) is the positive terminal of the differential analog input pair AIN4(+)/AIN4(-). This pin also functions as a positive reference input for REFIN2. REFIN2(+) can lie anywhere (See Datasheet)", 18 AIN4(-)/REFIN2(-) (in) "Analog Input/Negative Reference Input. AIN4(-) is the negative terminal of the differential analog input pair AIN4(+)/AIN4(-). This pin also functions as the negative reference input for REFIN2. This reference input can lie (See Datasheet)", 19 PSW "Low-Side Power Switch to GND.", 20 GND (power) "Ground Reference Point.", 21 AVDD (power) "Supply Voltage, 2.7 V to 5.25 V.", 22 DVDD (power) "Serial Interface Supply Voltage, 2.7 V to 5.25 V. DVDD is independent of AVDD. Therefore, the serial interface operates at 3 V with AVDD at 5 V or vice versa.", 23 DOUT/~{RDY} (out) "Serial Data Output/Data Ready Output. DOUT/R\D\Y\ serves a dual purpose. It functions as a serial data output pin to access the output shift register of the ADC. The output shift register can contain data from any of the (See Datasheet)", 24 DIN (in) "Serial Data Input to the Input Shift Register on the ADC. Data in this shift register is transferred to the control registers within the ADC with the register selection bits of the communications register identifying the (See Datasheet)"

## AD7794CRUZ
designator U?
6 Channel 24-Bit Low Noise Low Power Sigma-Delta Analog-to-Digital Converter with Serial, SPI Interface and On-Chip In-Amp and Reference, 4.17 / 470SPS, -40 to +125 degC, RU-24, Pb-Free, Tube; Part Number: AD7794; Manufacturer: Analog Devices; Resolution (Bits): 24; Channels: 6; Throughput Rate (SPS): 470; Interface: Ser, SPI; DatasheetVersion: Rev.D; PackageVersion: 2002; PackageReference: RU-24; PackageDescription: 24-Lead Thin Shrink Small Outline Package [TSSOP]; RoHS: Y; Packing: Tube; Mounting Technology: Surface Mount; Code_JEDEC: MO-153-AD; ComponentLink1Description: Manufacturer URL; ComponentLink1URL: http://www.analog.com/en/index.html; ComponentLink2Description: Datasheet; ComponentLink2URL: http://www.analog.com/static/imported-files/data_sheets/AD7794_7795.pdf; ComponentLink3Description: Package Specification; ComponentLink3URL: http://www.analog.com/static/imported-files/packages/380523655245964505593671154107510036154RU24.pdf; ComponentLink4Description: Product URL; ComponentLink4URL: http://www.analog.com/en/analog-to-digital-converters/ad-converters/ad7794/products/product.html
footprint RU-24_N (TSOP, 24-Leads, Body 7.8x4.4mm, Pitch 0.65mm, IPC Medium Density)
footprint RU-24_L (TSOP, 24-Leads, Body 7.8x4.4mm, Pitch 0.65mm, IPC High Density)
footprint RU-24_M (TSOP, 24-Leads, Body 7.8x4.4mm, Pitch 0.65mm, IPC Low Density)
pins: 1 SCLK (in) "Serial Clock Input. This serial clock input is for data transfers to and from the ADC. The SCLK has a Schmitttriggered input, making the interface suitable for opto-isolated applications. The serial clock can be continuous (See Datasheet)", 2 CLK (io) "Clock In/Clock Out. The internal clock can be made available at this pin. Alternatively, the internal clock can be disabled, and the ADC can be driven by an external clock. This allows several ADCs to be driven from a common (See Datasheet)", 3 ~{CS} (in) "Chip Select Input. This is an active low logic input used to select the ADC. C\S\ can be used to select the ADC in systems with more than one device on the serial bus or as a frame synchronization signal in communicating (See Datasheet)", 4 NC "No Connect.", 5 AIN6(+)/P1 (io) "Analog Input/Digital Output Pin. AIN6(+) is the positive terminal of the differential analog input pair,AIN6(+)/AIN6(-). This pin can also function as a general-purpose output bit referenced between AVDD and GND.", 6 AIN6(-)/P2 (io) "Analog Input/Digital Output Pin. AIN6(-) is the negative terminal of the differential analog input pair,AIN6(+)/AIN6(-). This pin can also function as a general-purpose output bit referenced between AVDD and GND.", 7 AIN1(+) (in) "Analog Input. AIN1(+) is the positive terminal of the differential analog input pair, AIN1(+)/AIN1(-).", 8 AIN1(-) (in) "Analog Input. AIN1(-) is the negative terminal of the differential analog input pair, AIN1(+)/AIN1(-).", 9 AIN2(+) (in) "Analog Input. AIN2(+) is the positive terminal of the differential analog input pair, AIN2(+)/AIN2(-).", 10 AIN2(-) (in) "Analog Input. AIN2(-) is the negative terminal of the differential analog input pair, AIN2(+)/AIN2(-).", 11 AIN3(+) (in) "Analog Input. AIN3(+) is the positive terminal of the differential analog input pair, AIN3(+)/AIN3(-).", 12 AIN3(-) (in) "Analog Input. AIN3(-) is the negative terminal of the differential analog input pair, AIN3(+)/AIN3(-).", 13 REFIN1(+) (in) "Positive Reference Input. An external reference can be applied between REFIN1(+) and REFIN1(-). REFIN1(+) can lie anywhere between AVDD and GND + 0.1 V. The nominal reference voltage, (REFIN1(+) - REFIN1(-)), is 2.5 V, but (See Datasheet)", 14 REFIN1(-) (in) "Negative Reference Input. This reference input can lie anywhere between GND and AVDD - 0.1 V.", 15 AIN5(+)/IOUT2 (io) "Analog Input/Output of Internal Excitation Current Source. AIN5(+) is the positive terminal of the differential analog input pair AIN5(+)/AIN5(-). Alternatively, the internal excitation current source can be made available (See Datasheet)", 16 AIN5(-)/IOUT1 (io) "Analog Input/Output of Internal Excitation Current Source. AIN5(-) is the negative terminal of the differential analog input pair, AIN5(+)/AIN5(-). Alternatively, the internal excitation current source can be made available (See Datasheet)", 17 AIN4(+)/REFIN2(+) (in) "Analog Input/Positive Reference Input. AIN4(+) is the positive terminal of the differential analog input pair AIN4(+)/AIN4(-). This pin also functions as a positive reference input for REFIN2. REFIN2(+) can lie anywhere (See Datasheet)", 18 AIN4(-)/REFIN2(-) (in) "Analog Input/Negative Reference Input. AIN4(-) is the negative terminal of the differential analog input pair AIN4(+)/AIN4(-). This pin also functions as the negative reference input for REFIN2. This reference input can lie (See Datasheet)", 19 PSW "Low-Side Power Switch to GND.", 20 GND (power) "Ground Reference Point.", 21 AVDD (power) "Supply Voltage, 2.7 V to 5.25 V.", 22 DVDD (power) "Serial Interface Supply Voltage, 2.7 V to 5.25 V. DVDD is independent of AVDD. Therefore, the serial interface operates at 3 V with AVDD at 5 V or vice versa.", 23 DOUT/~{RDY} (out) "Serial Data Output/Data Ready Output. DOUT/R\D\Y\ serves a dual purpose. It functions as a serial data output pin to access the output shift register of the ADC. The output shift register can contain data from any of the (See Datasheet)", 24 DIN (in) "Serial Data Input to the Input Shift Register on the ADC. Data in this shift register is transferred to the control registers within the ADC with the register selection bits of the communications register identifying the (See Datasheet)"

## AD7794CRUZ-REEL
designator U?
6 Channel 24-Bit Low Noise Low Power Sigma-Delta Analog-to-Digital Converter with Serial, SPI Interface and On-Chip In-Amp and Reference, 470SPS, -40 to +125 degC, RU-24, Pb-Free, Reel; Part Number: AD7794; Manufacturer: Analog Devices; Resolution (Bits): 24; Channels: 6; Throughput Rate (SPS): 470; Interface: Ser, SPI; DatasheetVersion: Rev.D; PackageVersion: 2002; PackageReference: RU-24; PackageDescription: 24-Lead Thin Shrink Small Outline Package [TSSOP]; RoHS: Y; Packing: Reel; Mounting Technology: Surface Mount; Code_JEDEC: MO-153-AD; ComponentLink1Description: Manufacturer URL; ComponentLink1URL: http://www.analog.com/en/index.html; ComponentLink2Description: Datasheet; ComponentLink2URL: http://www.analog.com/static/imported-files/data_sheets/AD7794_7795.pdf; ComponentLink3Description: Package Specification; ComponentLink3URL: http://www.analog.com/static/imported-files/packages/380523655245964505593671154107510036154RU24.pdf; ComponentLink4Description: Product URL; ComponentLink4URL: http://www.analog.com/en/analog-to-digital-converters/ad-converters/ad7794/products/product.html
footprint RU-24_N (TSOP, 24-Leads, Body 7.8x4.4mm, Pitch 0.65mm, IPC Medium Density)
footprint RU-24_L (TSOP, 24-Leads, Body 7.8x4.4mm, Pitch 0.65mm, IPC High Density)
footprint RU-24_M (TSOP, 24-Leads, Body 7.8x4.4mm, Pitch 0.65mm, IPC Low Density)
pins: 1 SCLK (in) "Serial Clock Input. This serial clock input is for data transfers to and from the ADC. The SCLK has a Schmitttriggered input, making the interface suitable for opto-isolated applications. The serial clock can be continuous (See Datasheet)", 2 CLK (io) "Clock In/Clock Out. The internal clock can be made available at this pin. Alternatively, the internal clock can be disabled, and the ADC can be driven by an external clock. This allows several ADCs to be driven from a common (See Datasheet)", 3 ~{CS} (in) "Chip Select Input. This is an active low logic input used to select the ADC. C\S\ can be used to select the ADC in systems with more than one device on the serial bus or as a frame synchronization signal in communicating (See Datasheet)", 4 NC "No Connect.", 5 AIN6(+)/P1 (io) "Analog Input/Digital Output Pin. AIN6(+) is the positive terminal of the differential analog input pair,AIN6(+)/AIN6(-). This pin can also function as a general-purpose output bit referenced between AVDD and GND.", 6 AIN6(-)/P2 (io) "Analog Input/Digital Output Pin. AIN6(-) is the negative terminal of the differential analog input pair,AIN6(+)/AIN6(-). This pin can also function as a general-purpose output bit referenced between AVDD and GND.", 7 AIN1(+) (in) "Analog Input. AIN1(+) is the positive terminal of the differential analog input pair, AIN1(+)/AIN1(-).", 8 AIN1(-) (in) "Analog Input. AIN1(-) is the negative terminal of the differential analog input pair, AIN1(+)/AIN1(-).", 9 AIN2(+) (in) "Analog Input. AIN2(+) is the positive terminal of the differential analog input pair, AIN2(+)/AIN2(-).", 10 AIN2(-) (in) "Analog Input. AIN2(-) is the negative terminal of the differential analog input pair, AIN2(+)/AIN2(-).", 11 AIN3(+) (in) "Analog Input. AIN3(+) is the positive terminal of the differential analog input pair, AIN3(+)/AIN3(-).", 12 AIN3(-) (in) "Analog Input. AIN3(-) is the negative terminal of the differential analog input pair, AIN3(+)/AIN3(-).", 13 REFIN1(+) (in) "Positive Reference Input. An external reference can be applied between REFIN1(+) and REFIN1(-). REFIN1(+) can lie anywhere between AVDD and GND + 0.1 V. The nominal reference voltage, (REFIN1(+) - REFIN1(-)), is 2.5 V, but (See Datasheet)", 14 REFIN1(-) (in) "Negative Reference Input. This reference input can lie anywhere between GND and AVDD - 0.1 V.", 15 AIN5(+)/IOUT2 (io) "Analog Input/Output of Internal Excitation Current Source. AIN5(+) is the positive terminal of the differential analog input pair AIN5(+)/AIN5(-). Alternatively, the internal excitation current source can be made available (See Datasheet)", 16 AIN5(-)/IOUT1 (io) "Analog Input/Output of Internal Excitation Current Source. AIN5(-) is the negative terminal of the differential analog input pair, AIN5(+)/AIN5(-). Alternatively, the internal excitation current source can be made available (See Datasheet)", 17 AIN4(+)/REFIN2(+) (in) "Analog Input/Positive Reference Input. AIN4(+) is the positive terminal of the differential analog input pair AIN4(+)/AIN4(-). This pin also functions as a positive reference input for REFIN2. REFIN2(+) can lie anywhere (See Datasheet)", 18 AIN4(-)/REFIN2(-) (in) "Analog Input/Negative Reference Input. AIN4(-) is the negative terminal of the differential analog input pair AIN4(+)/AIN4(-). This pin also functions as the negative reference input for REFIN2. This reference input can lie (See Datasheet)", 19 PSW "Low-Side Power Switch to GND.", 20 GND (power) "Ground Reference Point.", 21 AVDD (power) "Supply Voltage, 2.7 V to 5.25 V.", 22 DVDD (power) "Serial Interface Supply Voltage, 2.7 V to 5.25 V. DVDD is independent of AVDD. Therefore, the serial interface operates at 3 V with AVDD at 5 V or vice versa.", 23 DOUT/~{RDY} (out) "Serial Data Output/Data Ready Output. DOUT/R\D\Y\ serves a dual purpose. It functions as a serial data output pin to access the output shift register of the ADC. The output shift register can contain data from any of the (See Datasheet)", 24 DIN (in) "Serial Data Input to the Input Shift Register on the ADC. Data in this shift register is transferred to the control registers within the ADC with the register selection bits of the communications register identifying the (See Datasheet)"